# EAGLE library part RX5808 (library BOSCAM_5G8)
BOSCAM RX58xx Tested footprint and symbol for BOSCAM 5.8GHz FM receivers (RX5808 and RX5880)
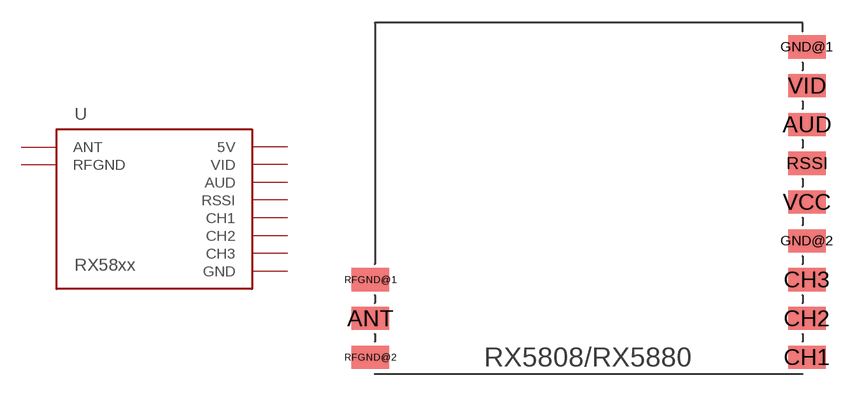
[diagram p0: symbol with the pads of RX5808; footprint RX5808]

Designator prefix U

## RX5808  [RX5808]
ANT  ANT
AUD  AUD
CH1  CH1
CH2  CH2
CH3  CH3
GND@1  GND
GND@2  GND
RFGND@1  RFGND
RFGND@2  RFGND
RSSI  RSSI
VCC  5V
VID  VID

## Footprint RX5808 (pad centres in mm)
Standard SMT Package
smd 2.438 x 1.524: ANT -15.037,-7.62; AUD 13.538,5.08; CH1 13.538,-10.16; CH2 13.538,-7.62; CH3 13.538,-5.08; GND@1 13.538,10.16; GND@2 13.538,-2.54; RFGND@1 -15.037,-5.08; RFGND@2 -15.037,-10.16; RSSI 13.538,2.54; VCC 13.538,0; VID 13.538,7.62